# Altium footprint library control-cluster-test.PcbLib: 6 footprints
Each footprint in its own frame and in the unit in brackets; x right, y up, seen from the top. Pads: shape width x height; smd on the part's side, far side on the other; paste and mask are expansions set on the pad; w line width, h text height; cw(c..) or ccw(c..) is an arc to the next point about the centre after c.
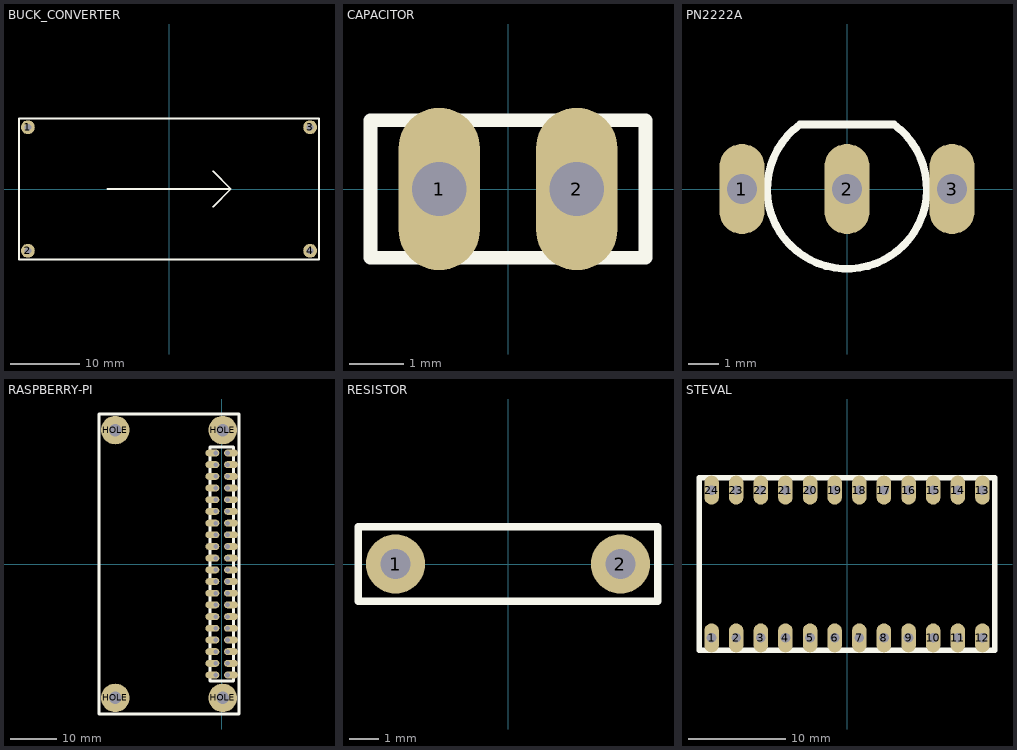
[diagram p0: the footprints below, top view; thin cyan lines are the x and y axes]

## BUCK_CONVERTER [mm]
pads (4):
  round 2 hole 1: 1(-20.32,8.89) 2(-20.32,-8.89) 3(20.32,8.89) 4(20.32,-8.89)
Top Overlay:
  lines w0.254: -8.89,0 8.89,0 ; 6.35,-2.54 8.89,0 ; 6.35,2.54 8.89,0 ; -21.59,-10.16 -21.59,10.16 21.59,10.16 21.59,-10.16 -21.59,-10.16

## CAPACITOR [mm]
pads (2):
  oval 1.5x3 hole 1: 1(-1.27,0) 2(1.27,0)
Top Overlay:
  lines w0.254: -2.54,-1.27 2.54,-1.27 2.54,1.27 -2.54,1.27 -2.54,-1.27

## PN2222A [mm]
pads (3):
  oval 1.5x3 hole 1: 1(-3.5,0) 2(0,0) 3(3.5,0)
Top Overlay:
  lines w0.254: -1.567,2.149 ccw(c0,0) 1.567,2.149 ; -1.567,2.15 1.567,2.15

## RASPBERRY-PI [mm]
pads (44):
  oval 3x1.5 hole 1 copper offset -0.75,0: 1(-1.27,24.13) 3(-1.27,21.59) 5(-1.27,19.05) 7(-1.27,16.51) 9(-1.27,13.97) 11(-1.27,11.43) 13(-1.27,8.89) 15(-1.27,6.35) 17(-1.27,3.81) 19(-1.27,1.27) 21(-1.27,-1.27) 23(-1.27,-3.81) 25(-1.27,-6.35) 27(-1.27,-8.89) 29(-1.27,-11.43) 31(-1.27,-13.97) 33(-1.27,-16.51) 35(-1.27,-19.05) 37(-1.27,-21.59) 39(-1.27,-24.13)
  oval 3x1.5 hole 1 copper offset 0.75,0: 2(1.27,24.13) 4(1.27,21.59) 6(1.27,19.05) 8(1.27,16.51) 10(1.27,13.97) 12(1.27,11.43) 14(1.27,8.89) 16(1.27,6.35) 18(1.27,3.81) 20(1.27,1.27) 22(1.27,-1.27) 24(1.27,-3.81) 26(1.27,-6.35) 28(1.27,-8.89) 30(1.27,-11.43) 32(1.27,-13.97) 34(1.27,-16.51) 36(1.27,-19.05) 38(1.27,-21.59) 40(1.27,-24.13)
  round 6.2 hole 2.75: HOLE(-23.14,-29.1) HOLE(-23.14,29.1) HOLE(0.24,-29.1) HOLE(0.24,29.1)
Top Overlay:
  lines w0.6: -26.64,-32.6 -26.64,32.6 3.74,32.6 3.74,-32.6 -26.64,-32.6 ; -2.54,-25.4 -2.54,25.4 2.54,25.4 2.54,-24.13 2.54,-25.4 -2.54,-25.4

## RESISTOR [mm]
pads (2):
  round 2 hole 1: 1(-3.81,0) 2(3.81,0)
Top Overlay:
  lines w0.254: -5.08,-1.27 -5.08,1.27 5.08,1.27 5.08,-1.27 -5.08,-1.27

## STEVAL [mm]
pads (24):
  oval 1.5x3 hole 1: 1(-13.97,-7.62) 2(-11.43,-7.62) 3(-8.89,-7.62) 4(-6.35,-7.62) 5(-3.81,-7.62) 6(-1.27,-7.62) 7(1.27,-7.62) 8(3.81,-7.62) 9(6.35,-7.62) 10(8.89,-7.62) 11(11.43,-7.62) 12(13.97,-7.62) 13(13.97,7.62) 14(11.43,7.62) 15(8.89,7.62) 16(6.35,7.62) 17(3.81,7.62) 18(1.27,7.62) 19(-1.27,7.62) 20(-3.81,7.62) 21(-6.35,7.62) 22(-8.89,7.62) 23(-11.43,7.62) 24(-13.97,7.62)
Top Overlay:
  lines w0.6: -15.24,-8.89 -15.24,8.89 15.24,8.89 15.24,-8.89 -15.24,-8.89